# Altium schematic symbol library Passive - Capacitor.SchLib: 2 symbols
Pins are listed as number, name and electrical type; pins without a type are passive.

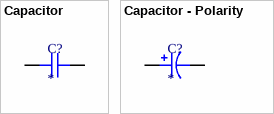
[diagram p0: symbols Capacitor to Capacitor - Polarity]

## Capacitor
designator C?
pins: 1, 2

## Capacitor - Polarity
designator C?
pins: 1, 2